# Altium footprint library IR Discrete MOSFET - Power.PcbLib: 64 footprints (part 1 of 4)
Each footprint in its own frame and in the unit in brackets; x right, y up, seen from the top. Pads: shape width x height; smd on the part's side, far side on the other; paste and mask are expansions set on the pad; w line width, h text height; cw(c..) or ccw(c..) is an arc to the next point about the centre after c.
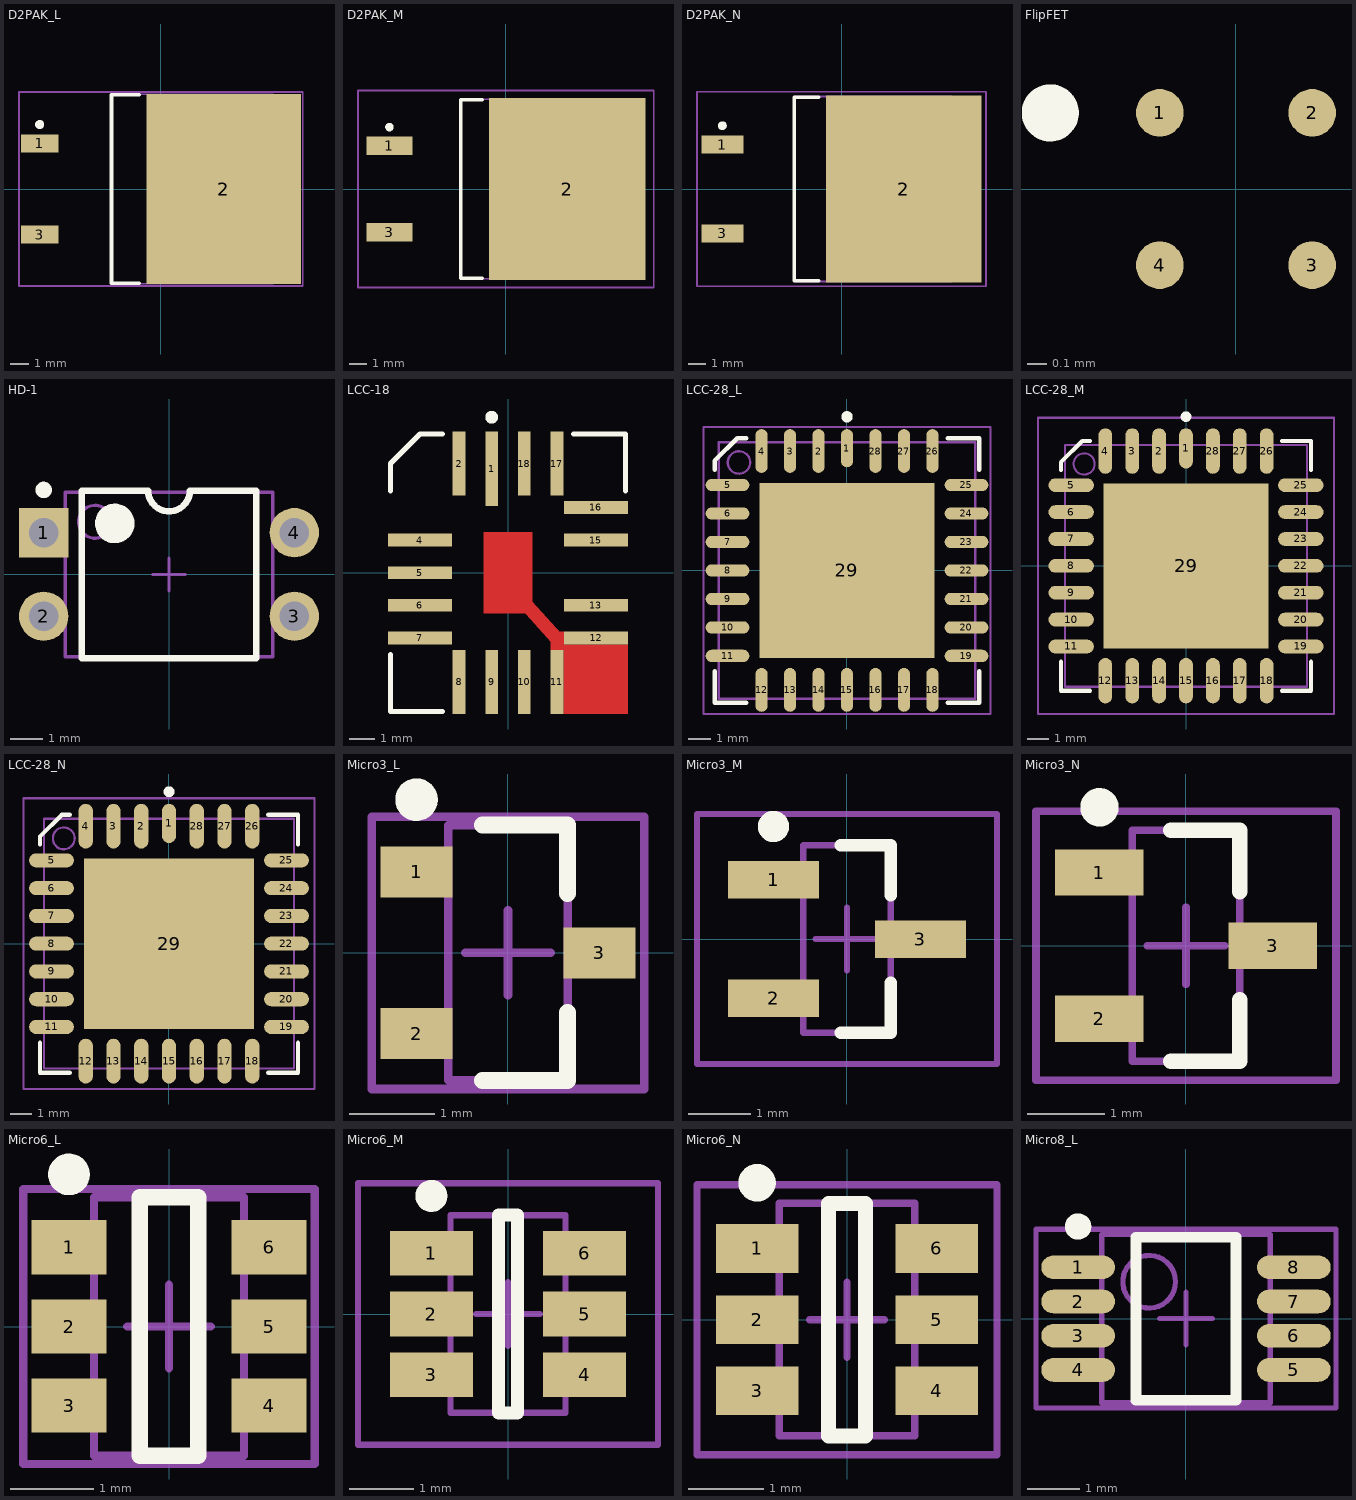
[diagram p0: the footprints below, top view; thin cyan lines are the x and y axes]

## D2PAK_L [mm] "D2-PAK, 4-Leads, Body 8.8x10.4mm, Pitch 2.54mm, Lead Span 15.1mm, IPC High Density"
height 4.69
pads (3):
  rect 2.1x1 smd: 1(-6.75,2.54) 3(-6.75,-2.54)
  rect 8.6x10.6 smd: 2(3.5,0)
Top Overlay:
  circle w0.25: c-6.75,3.59 r0.125
  lines w0.2: -1.2,-5.25 -2.75,-5.25 -2.75,5.25 -1.2,5.25
Mechanical 13:
  lines w0.1: -2.75,-5.275 6.25,-5.275 6.25,5.275 -2.75,5.275 -2.75,-5.275
Mechanical 15:
  lines w0.1: -0.5,0 0.5,0 ; 0,-0.5 0,0.5 ; -7.9,-5.4 7.9,-5.4 7.9,5.4 -7.9,5.4 -7.9,-5.4
3D body: height 4.69, standoff 0, extent -2.75,-5.275 6.25,5.275

## D2PAK_M [mm] "D2-PAK, 4-Leads, Body 8.8x10.4mm, Pitch 2.54mm, Lead Span 15.1mm, IPC Low Density"
height 4.69
pads (3):
  rect 2.7x1.1 smd: 1(-6.85,2.54) 3(-6.85,-2.54)
  rect 9.2x10.7 smd: 2(3.6,0)
Top Overlay:
  circle w0.25: c-6.85,3.64 r0.125
  lines w0.2: -1.4,-5.25 -2.65,-5.25 -2.65,5.25 -1.4,5.25
Mechanical 13:
  lines w0.1: -2.65,-5.275 6.35,-5.275 6.35,5.275 -2.65,5.275 -2.65,-5.275
Mechanical 15:
  lines w0.1: -0.5,0 0.5,0 ; 0,-0.5 0,0.5 ; -8.7,-5.8 8.7,-5.8 8.7,5.8 -8.7,5.8 -8.7,-5.8
3D body: height 4.69, standoff 0, extent -2.65,-5.275 6.35,5.275

## D2PAK_N [mm] "D2-PAK, 4-Leads, Body 8.8x10.4mm, Pitch 2.54mm, Lead Span 15.1mm, IPC Medium Density"
height 4.69
pads (3):
  rect 2.4x1.05 smd: 1(-6.8,2.54) 3(-6.8,-2.54)
  rect 8.9x10.65 smd: 2(3.55,0)
Top Overlay:
  circle w0.25: c-6.8,3.615 r0.125
  lines w0.2: -1.3,-5.25 -2.7,-5.25 -2.7,5.25 -1.3,5.25
Mechanical 13:
  lines w0.1: -2.7,-5.275 6.3,-5.275 6.3,5.275 -2.7,5.275 -2.7,-5.275
Mechanical 15:
  lines w0.1: -0.5,0 0.5,0 ; 0,-0.5 0,0.5 ; -8.25,-5.55 8.25,-5.55 8.25,5.55 -8.25,5.55 -8.25,-5.55
3D body: height 4.69, standoff 0, extent -2.7,-5.275 6.3,5.275

## FlipFET [mm] "FlipFET; 4 Balls; Body 1.5 x1.5 x 0.8 (LxWxH)"
height 0.762
pads (4):
  round 0.25 smd: 1(-0.4,0.4) 2(0.4,0.4) 3(0.4,-0.4) 4(-0.4,-0.4)
Top Overlay:
  circle w0.15: c-0.975,0.4 r0.075

## HD-1 [mm] "DIP, 4-Leads, Row Spacing 7.62mm, Pitch 2.54mm, Body 4.9x6.17mm"
height 4.57
pads (4):
  rect 1.5x1.5 hole 0.9: 1(-3.81,1.27)
  round 1.5 hole 0.9: 2(-3.81,-1.27) 3(3.81,-1.27) 4(3.81,1.27)
Top Overlay:
  circle w0.25: c-3.81,2.57 r0.125
  circle w0.6: c-1.65,1.55 r0.3
  lines w0.2: -2.65,-2.55 -2.65,2.55 -0.635,2.55 ccw(c0,2.55) 0.635,2.55 2.65,2.55 2.65,-2.55 -2.65,-2.55
Mechanical 13:
  circle w0.1: c-2.25,1.6 r0.5
  lines w0.1: -3.15,-2.5 -3.15,2.5 3.15,2.5 3.15,-2.5 -3.15,-2.5
Mechanical 15:
  lines w0.1: -0.5,0 0.5,0 ; 0,-0.5 0,0.5
3D body: height 4.57, standoff 0, extent -3.15,-2.5 3.15,2.5

## LCC-18 [mm] "Leadless Chip Carrier; 18 Terminals; Body 7.3 x 9 mm"
height 2.93
pads (16):
  rect 0.5x2.9 smd: 1(-0.635,4.05)
  rect 0.5x2.5 smd: 2(-1.905,4.25) 8(-1.905,-4.25) 9(-0.635,-4.25) 10(0.635,-4.25) 11(1.905,-4.25) 17(1.905,4.25) 18(0.635,4.25)
  rect 2.5x0.5 smd: 4(-3.429,1.27) 5(-3.429,0) 6(-3.429,-1.27) 7(-3.429,-2.54) 12(3.429,-2.54) 13(3.421,-1.27) 15(3.421,1.27) 16(3.421,2.54)
Top Layer:
  region: 0.93,-1.092 0.532,-1.45 1.683,-2.728 2.081,-2.37
  rectangle: 1.655,-3 2.178,-2.29
  region: 0.954,-1.597 0.954,1.578 -0.951,1.578 -0.951,-1.597
  rectangle: 2.155,-5.5 4.679,-2.79
Top Overlay:
  circle w0.25: c-0.634,6.052 r0.125
  lines w0.2: -4.575,-3.19 -4.575,-5.402 -2.555,-5.402 ; -4.575,3.19 -4.575,4.25 -3.429,5.398 -2.555,5.398 ; 2.555,5.398 4.575,5.398 4.574,3.19

## LCC-28_L [mm] "Leadless Chip Carrier, 28-Leads, Body 11.4x11.4mm, Pitch 1.27mm, Exposed Pad, IPC High Density"
height 2.42
pads (29):
  oval 0.55x1.7 smd: 1(0,5.45)
  oval 0.55x1.95 smd: 2(-1.27,5.325) 3(-2.54,5.325) 4(-3.81,5.325) 12(-3.81,-5.325) 13(-2.54,-5.325) 14(-1.27,-5.325) 15(0,-5.325) 16(1.27,-5.325) 17(2.54,-5.325) 18(3.81,-5.325) 26(3.81,5.325) 27(2.54,5.325) 28(1.27,5.325)
  oval 1.95x0.55 smd: 5(-5.325,3.81) 6(-5.325,2.54) 7(-5.325,1.27) 8(-5.325,0) 9(-5.325,-1.27) 10(-5.325,-2.54) 11(-5.325,-3.81) 19(5.325,-3.81) 20(5.325,-2.54) 21(5.325,-1.27) 22(5.325,0) 23(5.325,1.27) 24(5.325,2.54) 25(5.325,3.81)
  rect 7.8x7.8 smd: 29(0,0)
Top Overlay:
  circle w0.25: c0,6.85 r0.125
  lines w0.2: -5.9,-4.485 -5.9,-5.9 -4.485,-5.9 ; -5.9,4.485 -5.9,4.9 -4.9,5.9 -4.485,5.9 ; 4.485,-5.9 5.9,-5.9 5.9,-4.485 ; 4.485,5.9 5.9,5.9 5.9,4.485
Mechanical 13:
  circle w0.1: c-4.815,4.815 r0.5
  lines w0.1: -5.715,-5.715 5.715,-5.715 5.715,5.715 -5.715,5.715 -5.715,-5.715
Mechanical 15:
  lines w0.1: -0.5,0 0.5,0 ; 0,-0.5 0,0.5 ; -6.4,-6.4 6.4,-6.4 6.4,6.4 -6.4,6.4 -6.4,-6.4
3D body: height 2.42, standoff 0, extent -5.715,-5.715 5.715,5.715

## LCC-28_M [mm] "Leadless Chip Carrier, 28-Leads, Body 11.4x11.4mm, Pitch 1.27mm, Exposed Pad, IPC Low Density"
height 2.42
pads (29):
  oval 0.65x1.9 smd: 1(0,5.55)
  oval 0.65x2.15 smd: 2(-1.27,5.425) 3(-2.54,5.425) 4(-3.81,5.425) 12(-3.81,-5.425) 13(-2.54,-5.425) 14(-1.27,-5.425) 15(0,-5.425) 16(1.27,-5.425) 17(2.54,-5.425) 18(3.81,-5.425) 26(3.81,5.425) 27(2.54,5.425) 28(1.27,5.425)
  oval 2.15x0.65 smd: 5(-5.425,3.81) 6(-5.425,2.54) 7(-5.425,1.27) 8(-5.425,0) 9(-5.425,-1.27) 10(-5.425,-2.54) 11(-5.425,-3.81) 19(5.425,-3.81) 20(5.425,-2.54) 21(5.425,-1.27) 22(5.425,0) 23(5.425,1.27) 24(5.425,2.54) 25(5.425,3.81)
  rect 7.8x7.8 smd: 29(0,0)
Top Overlay:
  circle w0.25: c0,7.05 r0.125
  lines w0.2: -5.9,-4.535 -5.9,-5.9 -4.535,-5.9 ; -5.9,4.535 -5.9,4.9 -4.9,5.9 -4.535,5.9 ; 4.535,-5.9 5.9,-5.9 5.9,-4.535 ; 4.535,5.9 5.9,5.9 5.9,4.535
Mechanical 13:
  circle w0.1: c-4.815,4.815 r0.5
  lines w0.1: -5.715,-5.715 -5.715,5.715 5.715,5.715 5.715,-5.715 -5.715,-5.715
Mechanical 15:
  lines w0.1: -0.5,0 0.5,0 ; 0,-0.5 0,0.5 ; -7,-7 -7,7 7,7 7,-7 -7,-7
3D body: height 2.42, standoff 0, extent -5.715,-5.715 5.715,5.715

## LCC-28_N [mm] "Leadless Chip Carrier, 28-Leads, Body 11.4x11.4mm, Pitch 1.27mm, Exposed Pad, IPC Medium Density"
height 2.42
pads (29):
  oval 0.65x1.8 smd: 1(0,5.5)
  oval 0.65x2.05 smd: 2(-1.27,5.375) 3(-2.54,5.375) 4(-3.81,5.375) 12(-3.81,-5.375) 13(-2.54,-5.375) 14(-1.27,-5.375) 15(0,-5.375) 16(1.27,-5.375) 17(2.54,-5.375) 18(3.81,-5.375) 26(3.81,5.375) 27(2.54,5.375) 28(1.27,5.375)
  oval 2.05x0.65 smd: 5(-5.375,3.81) 6(-5.375,2.54) 7(-5.375,1.27) 8(-5.375,0) 9(-5.375,-1.27) 10(-5.375,-2.54) 11(-5.375,-3.81) 19(5.375,-3.81) 20(5.375,-2.54) 21(5.375,-1.27) 22(5.375,0) 23(5.375,1.27) 24(5.375,2.54) 25(5.375,3.81)
  rect 7.8x7.8 smd: 29(0,0)
Top Overlay:
  circle w0.25: c0,6.95 r0.125
  lines w0.2: -5.9,-4.535 -5.9,-5.9 -4.535,-5.9 ; -5.9,4.535 -5.9,4.9 -4.9,5.9 -4.535,5.9 ; 4.535,-5.9 5.9,-5.9 5.9,-4.535 ; 4.535,5.9 5.9,5.9 5.9,4.535
Mechanical 13:
  circle w0.1: c-4.815,4.815 r0.5
  lines w0.1: -5.715,-5.715 -5.715,5.715 5.715,5.715 5.715,-5.715 -5.715,-5.715
Mechanical 15:
  lines w0.1: -0.5,0 0.5,0 ; 0,-0.5 0,0.5 ; -6.65,-6.65 -6.65,6.65 6.65,6.65 6.65,-6.65 -6.65,-6.65
3D body: height 2.42, standoff 0, extent -5.715,-5.715 5.715,5.715

## Micro3_L [mm] "SOT23, 3-Leads, Body 2.9x1.3mm, Pitch 0.95mm, Lead Span 2.3mm, IPC High Density"
height 1.12
pads (3):
  rect 0.85x0.6 smd: 1(-1.075,0.95) 2(-1.075,-0.95) 3(1.075,0)
Top Overlay:
  circle w0.25: c-1.075,1.8 r0.125
  lines w0.2: -0.3,-1.5 0.7,-1.5 0.7,-0.7 ; -0.3,1.5 0.7,1.5 0.7,0.7
Mechanical 13:
  lines w0.1: -0.7,-1.5 -0.7,1.5 0.7,1.5 0.7,-1.5 -0.7,-1.5
Mechanical 15:
  lines w0.1: -0.5,0 0.5,0 ; 0,-0.5 0,0.5 ; -1.6,-1.6 -1.6,1.6 1.6,1.6 1.6,-1.6 -1.6,-1.6
3D body: height 1.12, standoff 0, extent -0.7,-1.5 0.7,1.5

## Micro3_M [mm] "SOT23, 3-Leads, Body 2.9x1.3mm, Pitch 0.95mm, Lead Span 2.3mm, IPC Low Density"
height 1.12
pads (3):
  rect 1.45x0.6 smd: 1(-1.175,0.95) 2(-1.175,-0.95) 3(1.175,0)
Top Overlay:
  circle w0.25: c-1.175,1.8 r0.125
  lines w0.2: -0.1,-1.5 0.7,-1.5 0.7,-0.7 ; -0.1,1.5 0.7,1.5 0.7,0.7
Mechanical 13:
  lines w0.1: -0.7,-1.5 -0.7,1.5 0.7,1.5 0.7,-1.5 -0.7,-1.5
Mechanical 15:
  lines w0.1: -0.5,0 0.5,0 ; 0,-0.5 0,0.5 ; -2.4,-2 -2.4,2 2.4,2 2.4,-2 -2.4,-2
3D body: height 1.12, standoff 0, extent -0.7,-1.5 0.7,1.5

## Micro3_N [mm] "SOT23, 3-Leads, Body 2.9x1.3mm, Pitch 0.95mm, Lead Span 2.3mm, IPC Medium Density"
height 1.12
pads (3):
  rect 1.15x0.6 smd: 1(-1.125,0.95) 2(-1.125,-0.95) 3(1.125,0)
Top Overlay:
  circle w0.25: c-1.125,1.8 r0.125
  lines w0.2: -0.2,-1.5 0.7,-1.5 0.7,-0.7 ; -0.2,1.5 0.7,1.5 0.7,0.7
Mechanical 13:
  lines w0.1: -0.7,-1.5 -0.7,1.5 0.7,1.5 0.7,-1.5 -0.7,-1.5
Mechanical 15:
  lines w0.1: -0.5,0 0.5,0 ; 0,-0.5 0,0.5 ; -1.95,-1.75 -1.95,1.75 1.95,1.75 1.95,-1.75 -1.95,-1.75
3D body: height 1.12, standoff 0, extent -0.7,-1.5 0.7,1.5

## Micro6_L [mm] "SOT23, 6-Leads, Body 2.9x1.6mm, Pitch 0.95mm, Lead Span 2.8mm, IPC High Density"
height 1.45
pads (6):
  rect 0.9x0.65 smd: 1(-1.2,0.95) 2(-1.2,0) 3(-1.2,-0.95) 4(1.2,-0.95) 5(1.2,0) 6(1.2,0.95)
Top Overlay:
  circle w0.25: c-1.2,1.825 r0.125
  lines w0.2: -0.35,-1.55 -0.35,1.55 0.35,1.55 0.35,-1.55 -0.35,-1.55
Mechanical 13:
  lines w0.1: -0.9,-1.55 0.9,-1.55 0.9,1.55 -0.9,1.55 -0.9,-1.55
Mechanical 15:
  lines w0.1: -0.5,0 0.5,0 ; 0,-0.5 0,0.5 ; -1.75,-1.65 1.75,-1.65 1.75,1.65 -1.75,1.65 -1.75,-1.65
3D body: height 1.45, standoff 0, extent -0.9,-1.55 0.9,1.55

## Micro6_M [mm] "SOT23, 6-Leads, Body 2.9x1.6mm, Pitch 0.95mm, Lead Span 2.8mm, IPC Low Density"
height 1.45
pads (6):
  rect 1.3x0.7 smd: 1(-1.2,0.95) 2(-1.2,0) 3(-1.2,-0.95) 4(1.2,-0.95) 5(1.2,0) 6(1.2,0.95)
Top Overlay:
  circle w0.25: c-1.2,1.85 r0.125
  lines w0.2: -0.15,-1.55 -0.15,1.55 0.15,1.55 0.15,-1.55 -0.15,-1.55
Mechanical 13:
  lines w0.1: -0.9,-1.55 0.9,-1.55 0.9,1.55 -0.9,1.55 -0.9,-1.55
Mechanical 15:
  lines w0.1: -0.5,0 0.5,0 ; 0,-0.5 0,0.5 ; -2.35,-2.05 2.35,-2.05 2.35,2.05 -2.35,2.05 -2.35,-2.05
3D body: height 1.45, standoff 0, extent -0.9,-1.55 0.9,1.55

## Micro6_N [mm] "SOT23, 6-Leads, Body 2.9x1.6mm, Pitch 0.95mm, Lead Span 2.8mm, IPC Medium Density"
height 1.45
pads (6):
  rect 1.1x0.65 smd: 1(-1.2,0.95) 2(-1.2,0) 3(-1.2,-0.95) 4(1.2,-0.95) 5(1.2,0) 6(1.2,0.95)
Top Overlay:
  circle w0.25: c-1.2,1.825 r0.125
  lines w0.2: -0.25,-1.55 -0.25,1.55 0.25,1.55 0.25,-1.55 -0.25,-1.55
Mechanical 13:
  lines w0.1: -0.9,-1.55 0.9,-1.55 0.9,1.55 -0.9,1.55 -0.9,-1.55
Mechanical 15:
  lines w0.1: -0.5,0 0.5,0 ; 0,-0.5 0,0.5 ; -2,-1.8 2,-1.8 2,1.8 -2,1.8 -2,-1.8
3D body: height 1.45, standoff 0, extent -0.9,-1.55 0.9,1.55

## Micro8_L [mm] "TSOP, 8-Leads, Body 3x3mm, Pitch 0.65mm, IPC High Density"
height 1.11
pads (8):
  oval 1.4x0.45 smd: 1(-2.05,0.975) 2(-2.05,0.325) 3(-2.05,-0.325) 4(-2.05,-0.975) 5(2.05,-0.975) 6(2.05,-0.325) 7(2.05,0.325) 8(2.05,0.975)
Top Overlay:
  circle w0.25: c-2.05,1.75 r0.125
  lines w0.2: -0.95,-1.55 -0.95,1.55 0.95,1.55 0.95,-1.55 -0.95,-1.55
Mechanical 13:
  circle w0.1: c-0.7,0.7 r0.5
  lines w0.1: -1.6,-1.6 -1.6,1.6 1.6,1.6 1.6,-1.6 -1.6,-1.6
Mechanical 15:
  lines w0.1: -0.5,0 0.5,0 ; 0,-0.5 0,0.5 ; -2.85,-1.7 -2.85,1.7 2.85,1.7 2.85,-1.7 -2.85,-1.7
3D body: height 1.11, standoff 0, extent -1.6,-1.6 1.6,1.6